# Altium integrated library Amplifiers - OP Amps and Buffer Amps.IntLib: 41 symbols (part 1 of 2)
Pins are listed as number, name and electrical type; pins without a type are passive.

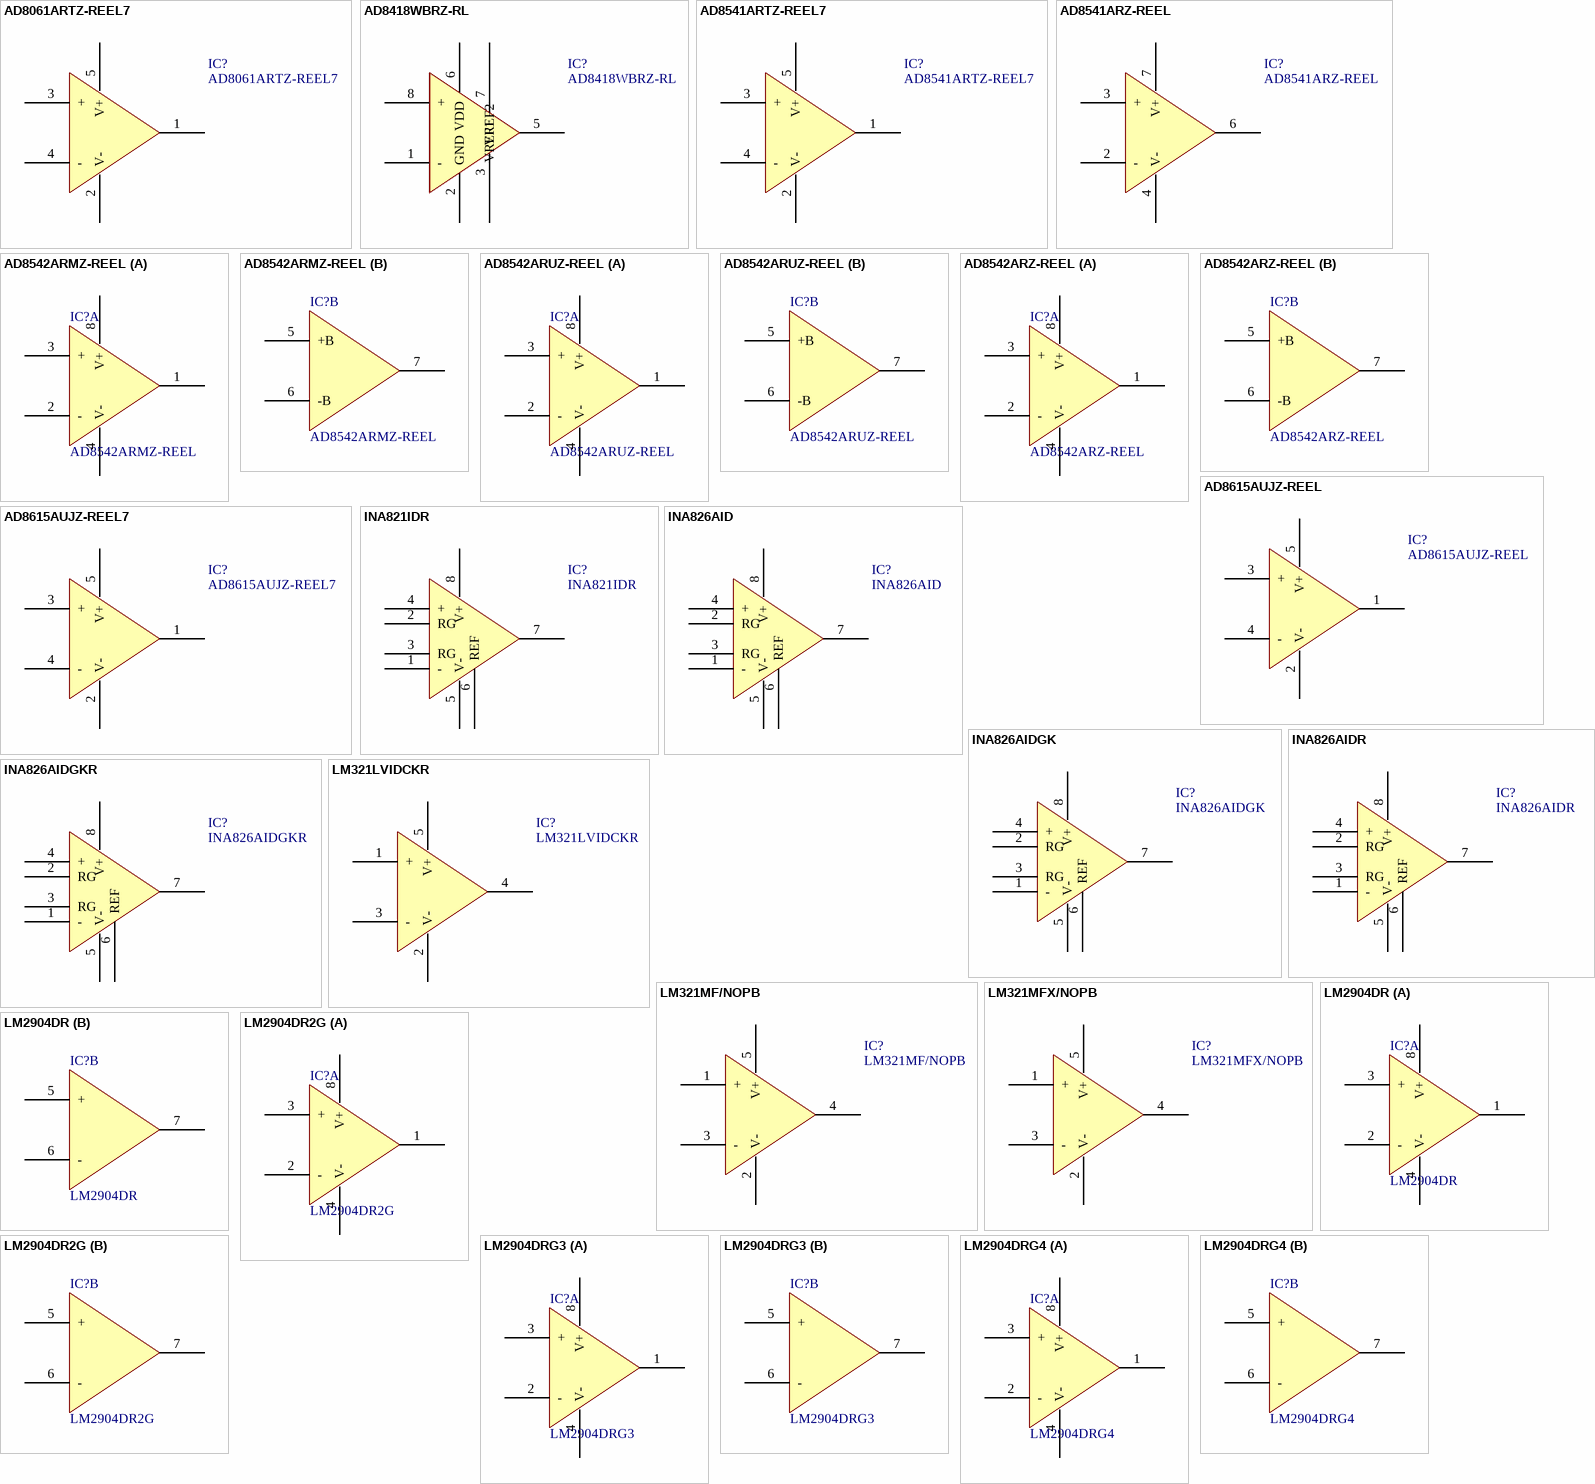
[diagram p0: symbols AD8061ARTZ-REEL7 to LM2904DRG4]

## AD8061ARTZ-REEL7
designator IC?
IC OPAMP VFB 1 CIRCUIT SOT23-5; Manufacturer: Analog Devices Inc.; -3db Bandwidth: 320MHz; Amplifier Type: Voltage Feedback; Current - Input Bias: 3.5µA; Current - Output / Channel: 50mA; Current - Supply: 6.8mA; Number of Circuits: 1; Output Type: Rail-to-Rail; Slew Rate: 650V/µs; Voltage - Input Offset: 1mV; Voltage - Supply, Single/Dual (±): 2.7V ~ 8V, ±1.35V ~ 4V; Part Number: AD8061ARTZ-REEL7; ComponentLink1Description: Datasheet; ComponentLink1URL: https://www.analog.com/media/en/technical-documentation/data-sheets/AD8061_8062_8063.pdf; ComponentLink2Description: DigiKey Link; ComponentLink2URL: //digikey.com/product-detail/en/analog-devices-inc/AD8061ARTZ-REEL7/AD8061ARTZ-REEL7TR-ND/620697; Device Package: SC-74A, SOT-753; LastUpdated: 12/4/2019 1:13:27 PM; Lifecycle Status: 0; Minimum Order: 1; Mounting Type: Surface Mount; Operating Temperature: -40°C ~ 85°C; Package / Case: SC-74A, SOT-753; Packaging: TapeAndReel; PartId: 1; Part Status: Active; Price: 1.05; Series: -; Supplier 1: DigiKey; Supplier Part Number 1: AD8061ARTZ-REEL7TR-ND; Supplier Device Package: SOT-23-5
footprint ANALOG SOT-23-5 RJ-5
pins: 1 OUT, 2 V-, 3 +, 4 -, 5 V+

## AD8418WBRZ-RL
designator IC?
IC CURR SENSE 1 CIRCUIT 8SOIC; Manufacturer: Analog Devices Inc.; -3db Bandwidth: 250kHz; Amplifier Type: Current Sense; Current - Supply: 2.6mA; Number of Circuits: 1; Slew Rate: 1V/µs; Voltage - Input Offset: 200µV; Voltage - Supply, Single/Dual (±): 2.7V ~ 5.5V; Part Number: AD8418WBRZ-RL; ComponentLink1Description: Datasheet; ComponentLink1URL: https://www.analog.com/media/en/technical-documentation/data-sheets/AD8418.pdf; ComponentLink2Description: DigiKey Link; ComponentLink2URL: //digikey.com/product-detail/en/analog-devices-inc/AD8418WBRZ-RL/AD8418WBRZ-RLTR-ND/4901149; Device Package: 8-SOIC (0.154", 3.90mm Width); LastUpdated: 12/4/2019 1:14:45 PM; Lifecycle Status: 0; Minimum Order: 1; Mounting Type: Surface Mount; Operating Temperature: -40°C ~ 125°C; Package / Case: 8-SOIC (0.154", 3.90mm Width); Packaging: TapeAndReel; PartId: 2; Part Status: Active; Price: 1.44; Series: Automotive; Supplier 1: DigiKey; Supplier Part Number 1: AD8418WBRZ-RLTR-ND; Supplier Device Package: 8-SOIC
footprint ANALOG DEV SOIC-8 R8
pins: 1 -, 2 GND, 3 VREF2, 5 OUT, 6 VDD, 7 VREF1, 8 +

## AD8541ARTZ-REEL7
designator IC?
IC OPAMP GP 1 CIRCUIT SOT23-5; Manufacturer: Analog Devices Inc.; Amplifier Type: General Purpose; Current - Input Bias: 4pA; Current - Output / Channel: 30mA; Current - Supply: 45µA; Gain Bandwidth Product: 1MHz; Number of Circuits: 1; Output Type: Rail-to-Rail; Slew Rate: 0.92V/µs; Voltage - Input Offset: 1mV; Voltage - Supply, Single/Dual (±): 2.7V ~ 5.5V; Part Number: AD8541ARTZ-REEL7; ComponentLink1Description: Datasheet; ComponentLink1URL: https://www.analog.com/media/en/technical-documentation/data-sheets/AD8541_8542_8544.pdf; ComponentLink2Description: DigiKey Link; ComponentLink2URL: http://digikey.com/product-detail/en/analog-devices-inc/AD8541ARTZ-REEL7/AD8541ARTZ-REEL7CT-ND/813416; Device Package: SC-74A, SOT-753; LastUpdated: 1/8/2020 11:39:15 PM; Lifecycle Status: Active; Minimum Order: 1; Mounting Type: Surface Mount; Operating Temperature: -40°C ~ 125°C; Package / Case: SC-74A, SOT-753; Packaging: ReReel; PartId: 9; Part Status: Active; Price: 0.00; Series: -; Supplier 1: DigiKey; Supplier Part Number 1: AD8541ARTZ-REEL7CT-ND; Supplier Device Package: SOT-23-5
footprint ANALOG SOT-23-5 RJ-5
pins: 1 OUT, 2 V-, 3 +, 4 -, 5 V+

## AD8541ARZ-REEL
designator IC?
IC OPAMP GP 1 CIRCUIT 8SOIC; Manufacturer: Analog Devices Inc.; Amplifier Type: General Purpose; Current - Input Bias: 4pA; Current - Output / Channel: 30mA; Current - Supply: 45µA; Gain Bandwidth Product: 1MHz; Number of Circuits: 1; Output Type: Rail-to-Rail; Slew Rate: 0.92V/µs; Voltage - Input Offset: 1mV; Voltage - Supply, Single/Dual (±): 2.7V ~ 5.5V; Part Number: AD8541ARZ-REEL; ComponentLink1Description: Datasheet; ComponentLink1URL: https://www.analog.com/media/en/technical-documentation/data-sheets/AD8541_8542_8544.pdf; ComponentLink2Description: DigiKey Link; ComponentLink2URL: http://digikey.com/product-detail/en/analog-devices-inc/AD8541ARZ-REEL/AD8541ARZ-REELCT-ND/4907211; Device Package: 8-SOIC (0.154", 3.90mm Width); LastUpdated: 1/9/2020 12:52:28 AM; Lifecycle Status: Active; Minimum Order: 1; Mounting Type: Surface Mount; Operating Temperature: -40°C ~ 125°C; Package / Case: 8-SOIC (0.154", 3.90mm Width); Packaging: ReReel; PartId: 10; Part Status: Active; Price: 0.00; Series: -; Supplier 1: DigiKey; Supplier Part Number 1: AD8541ARZ-REELCT-ND; Supplier Device Package: 8-SOIC
footprint ANALOG DEV SOIC-8 R8
pins: 2 -, 3 +, 4 V-, 6 OUT, 7 V+

## AD8542ARMZ-REEL
designator IC?
IC OPAMP GP 2 CIRCUIT 8MSOP; Manufacturer: Analog Devices Inc.; Amplifier Type: General Purpose; Current - Input Bias: 4pA; Current - Output / Channel: 30mA; Current - Supply: 45µA; Gain Bandwidth Product: 1MHz; Number of Circuits: 2; Output Type: Rail-to-Rail; Slew Rate: 0.92V/µs; Voltage - Input Offset: 1mV; Voltage - Supply, Single/Dual (±): 2.7V ~ 5.5V; Part Number: AD8542ARMZ-REEL; ComponentLink1Description: Datasheet; ComponentLink1URL: https://www.analog.com/media/en/technical-documentation/data-sheets/AD8541_8542_8544.pdf; ComponentLink2Description: DigiKey Link; ComponentLink2URL: http://digikey.com/product-detail/en/analog-devices-inc/AD8542ARMZ-REEL/AD8542ARMZ-REELCT-ND/1957825; Device Package: 8-TSSOP, 8-MSOP (0.118", 3.00mm Width); LastUpdated: 1/8/2020 11:28:44 PM; Lifecycle Status: Active; Minimum Order: 1; Mounting Type: Surface Mount; Operating Temperature: -40°C ~ 125°C; Package / Case: 8-TSSOP, 8-MSOP (0.118", 3.00mm Width); Packaging: ReReel; PartId: 7; Part Status: Active; Price: 0.00; Series: -; Supplier 1: DigiKey; Supplier Part Number 1: AD8542ARMZ-REELCT-ND; Supplier Device Package: 8-MSOP
footprint ANALOG MSOP-8 RM-8
part A pins: 1 OUT, 2 -, 3 +, 4 V-, 8 V+
part B pins: 5 +B, 6 -B, 7 OUT B

## AD8542ARUZ-REEL
designator IC?
IC OPAMP GP 2 CIRCUIT 8TSSOP; Manufacturer: Analog Devices Inc.; Amplifier Type: General Purpose; Current - Input Bias: 4pA; Current - Output / Channel: 30mA; Current - Supply: 45µA; Gain Bandwidth Product: 1MHz; Number of Circuits: 2; Output Type: Rail-to-Rail; Slew Rate: 0.92V/µs; Voltage - Input Offset: 1mV; Voltage - Supply, Single/Dual (±): 2.7V ~ 5.5V; Part Number: AD8542ARUZ-REEL; ComponentLink1Description: Datasheet; ComponentLink1URL: https://www.analog.com/media/en/technical-documentation/data-sheets/AD8541_8542_8544.pdf; ComponentLink2Description: DigiKey Link; ComponentLink2URL: http://digikey.com/product-detail/en/analog-devices-inc/AD8542ARUZ-REEL/AD8542ARUZ-REELCT-ND/3771170; Device Package: 8-TSSOP (0.173", 4.40mm Width); LastUpdated: 1/8/2020 11:37:06 PM; Lifecycle Status: Active; Minimum Order: 1; Mounting Type: Surface Mount; Operating Temperature: -40°C ~ 125°C; Package / Case: 8-TSSOP (0.173", 4.40mm Width); Packaging: ReReel; PartId: 8; Part Status: Active; Price: 0.00; Series: -; Supplier 1: DigiKey; Supplier Part Number 1: AD8542ARUZ-REELCT-ND; Supplier Device Package: 8-TSSOP
footprint ANALOG TSSOP-8 RU-8
part A pins: 1 OUT, 2 -, 3 +, 4 V-, 8 V+
part B pins: 5 +B, 6 -B, 7 OUT B

## AD8542ARZ-REEL
designator IC?
IC OPAMP GP 2 CIRCUIT 8SOIC; Manufacturer: Analog Devices Inc.; Amplifier Type: General Purpose; Current - Input Bias: 4pA; Current - Output / Channel: 30mA; Current - Supply: 45µA; Gain Bandwidth Product: 1MHz; Number of Circuits: 2; Output Type: Rail-to-Rail; Slew Rate: 0.92V/µs; Voltage - Input Offset: 1mV; Voltage - Supply, Single/Dual (±): 2.7V ~ 5.5V; Part Number: AD8542ARZ-REEL; ComponentLink1Description: Datasheet; ComponentLink1URL: https://www.analog.com/media/en/technical-documentation/data-sheets/AD8541_8542_8544.pdf; ComponentLink2Description: DigiKey Link; ComponentLink2URL: http://digikey.com/product-detail/en/analog-devices-inc/AD8542ARZ-REEL/AD8542ARZ-REELCT-ND/4906335; Device Package: 8-SOIC (0.154", 3.90mm Width); LastUpdated: 1/8/2020 11:28:26 PM; Lifecycle Status: Active; Minimum Order: 1; Mounting Type: Surface Mount; Operating Temperature: -40°C ~ 125°C; Package / Case: 8-SOIC (0.154", 3.90mm Width); Packaging: ReReel; PartId: 6; Part Status: Active; Price: 0.00; Series: -; Supplier 1: DigiKey; Supplier Part Number 1: AD8542ARZ-REELCT-ND; Supplier Device Package: 8-SOIC
footprint ANALOG DEV SOIC-8 R8
part A pins: 1 OUT, 2 -, 3 +, 4 V-, 8 V+
part B pins: 5 +B, 6 -B, 7 OUT B

## AD8615AUJZ-REEL
designator IC?
IC OPAMP GP 1 CIRCUIT TSOT23-5; Manufacturer: Analog Devices Inc.; Amplifier Type: General Purpose; Current - Input Bias: 0.2pA; Current - Output / Channel: 150mA; Current - Supply: 1.7mA; Gain Bandwidth Product: 24MHz; Number of Circuits: 1; Output Type: Rail-to-Rail; Slew Rate: 12V/µs; Voltage - Input Offset: 23µV; Voltage - Supply, Single/Dual (±): 2.7V ~ 5.5V, ±1.35V ~ 2.75V; Part Number: AD8615AUJZ-REEL; ComponentLink1Description: Datasheet; ComponentLink1URL: https://www.analog.com/media/en/technical-documentation/data-sheets/AD8615_8616_8618.pdf; ComponentLink2Description: DigiKey Link; ComponentLink2URL: //digikey.com/product-detail/en/analog-devices-inc/AD8615AUJZ-REEL/AD8615AUJZ-REELTR-ND/993826; Device Package: SOT-23-5 Thin, TSOT-23-5; LastUpdated: 12/9/2019 2:06:44 AM; Lifecycle Status: 0; Minimum Order: 1; Mounting Type: Surface Mount; Operating Temperature: -40°C ~ 125°C; Package / Case: SOT-23-5 Thin, TSOT-23-5; Packaging: TapeAndReel; PartId: 5; Part Status: Active; Price: 1.06; Series: DigiTrim®; Supplier 1: DigiKey; Supplier Part Number 1: AD8615AUJZ-REELTR-ND; Supplier Device Package: TSOT-23-5
footprint ANALOG TSOT-23-5 UJ-5
pins: 1 OUT, 2 V-, 3 +, 4 -, 5 V+

## AD8615AUJZ-REEL7
designator IC?
IC OPAMP GP 1 CIRCUIT TSOT23-5; Manufacturer: Analog Devices Inc.; Amplifier Type: General Purpose; Current - Input Bias: 0.2pA; Current - Output / Channel: 150mA; Current - Supply: 1.7mA; Gain Bandwidth Product: 24MHz; Number of Circuits: 1; Output Type: Rail-to-Rail; Slew Rate: 12V/µs; Voltage - Input Offset: 23µV; Voltage - Supply, Single/Dual (±): 2.7V ~ 5.5V, ±1.35V ~ 2.75V; Part Number: AD8615AUJZ-REEL7; ComponentLink1Description: Datasheet; ComponentLink1URL: https://www.analog.com/media/en/technical-documentation/data-sheets/AD8615_8616_8618.pdf; ComponentLink2Description: DigiKey Link; ComponentLink2URL: //digikey.com/product-detail/en/analog-devices-inc/AD8615AUJZ-REEL7/AD8615AUJZ-REEL7TR-ND/951437; Device Package: SOT-23-5 Thin, TSOT-23-5; LastUpdated: 12/4/2019 3:27:04 PM; Lifecycle Status: 0; Minimum Order: 1; Mounting Type: Surface Mount; Operating Temperature: -40°C ~ 125°C; Package / Case: SOT-23-5 Thin, TSOT-23-5; Packaging: TapeAndReel; PartId: 3; Part Status: Active; Price: 1.06; Series: DigiTrim®; Supplier 1: DigiKey; Supplier Part Number 1: AD8615AUJZ-REEL7TR-ND; Supplier Device Package: TSOT-23-5
footprint ANALOG TSOT-23-5 UJ-5
pins: 1 OUT, 2 V-, 3 +, 4 -, 5 V+

## INA821IDR
designator IC?
OP AMP; Manufacturer: Texas Instruments; -3db Bandwidth: 4.7MHz; Amplifier Type: Instrumentation; Current - Input Bias: 150pA; Current - Output / Channel: 20mA; Current - Supply: 600µA; Number of Circuits: 1; Slew Rate: 2V/µs; Voltage - Input Offset: 10µV; Voltage - Supply, Single/Dual (±): 4.5V ~ 36V, ±2.25V ~ 18V; Part Number: INA821IDR; ComponentLink1Description: Datasheet; ComponentLink1URL: http://www.ti.com/general/docs/suppproductinfo.tsp?distId=10&gotoUrl=http%3A%2F%2Fwww.ti.com%2Flit%2Fgpn%2Fina821; ComponentLink2Description: DigiKey Link; ComponentLink2URL: http://digikey.com/product-detail/en/texas-instruments/INA821IDR/296-INA821IDRCT-ND/10816915; Device Package: 8-SOIC (0.154", 3.90mm Width); LastUpdated: 2/5/2020 5:37:48 AM; Lifecycle Status: Active; Minimum Order: 1; Mounting Type: Surface Mount; Operating Temperature: -40°C ~ 125°C (TA); Package / Case: 8-SOIC (0.154", 3.90mm Width); Packaging: CutTape; PartId: 26; Part Status: Active; Price: 5.31; Series: -; Supplier 1: DigiKey; Supplier Part Number 1: 296-INA821IDRCT-ND; Supplier Device Package: 8-SOIC
footprint TI SOIC-8 D
pins: 1 -, 2 RG, 3 RG, 4 +, 5 V-, 6 REF, 7 OUT, 8 V+

## INA826AID
designator IC?
IC INST AMP 1 CIRCUIT 8SOIC; Manufacturer: Texas Instruments; -3db Bandwidth: 1MHz; Amplifier Type: Instrumentation; Current - Input Bias: 35nA; Current - Output / Channel: 16mA; Current - Supply: 200µA; Number of Circuits: 1; Output Type: Rail-to-Rail; Slew Rate: 1V/µs; Voltage - Input Offset: 40µV; Voltage - Supply, Single/Dual (±): 2.7V ~ 36V, ±1.35V ~ 18V; Part Number: INA826AID; ComponentLink1Description: Datasheet; ComponentLink1URL: http://www.ti.com/general/docs/suppproductinfo.tsp?distId=10&gotoUrl=http%3A%2F%2Fwww.ti.com%2Flit%2Fgpn%2Fina826; ComponentLink2Description: DigiKey Link; ComponentLink2URL: http://digikey.com/product-detail/en/texas-instruments/INA826AID/296-33294-5-ND/3053283; LastUpdated: 9/5/2020 1:50:12 AM; Lifecycle Status: Active; Minimum Order: 1; Mounting Type: Surface Mount; Operating Temperature: -40°C ~ 125°C; Package / Case: 8-SOIC (0.154", 3.90mm Width); Packaging: Tube; PartId: 40; Part Status: Active; Price: 2.94; Series: -; Supplier 1: DigiKey; Supplier Part Number 1: 296-33294-5-ND; Supplier Device Package: 8-SOIC
footprint TI SOIC-8 D
pins: 1 -, 2 RG, 3 RG, 4 +, 5 V-, 6 REF, 7 OUT, 8 V+

## INA826AIDGK
designator IC?
IC INST AMP 1 CIRCUIT 8VSSOP; Manufacturer: Texas Instruments; -3db Bandwidth: 1MHz; Amplifier Type: Instrumentation; Current - Input Bias: 35nA; Current - Output / Channel: 16mA; Current - Supply: 200µA; Number of Circuits: 1; Output Type: Rail-to-Rail; Slew Rate: 1V/µs; Voltage - Input Offset: 40µV; Voltage - Supply, Single/Dual (±): 2.7V ~ 36V, ±1.35V ~ 18V; Part Number: INA826AIDGK; ComponentLink1Description: Datasheet; ComponentLink1URL: http://www.ti.com/general/docs/suppproductinfo.tsp?distId=10&gotoUrl=http%3A%2F%2Fwww.ti.com%2Flit%2Fgpn%2Fina826; ComponentLink2Description: DigiKey Link; ComponentLink2URL: http://digikey.com/product-detail/en/texas-instruments/INA826AIDGK/296-29687-5-ND/2762243; LastUpdated: 9/5/2020 1:51:47 AM; Lifecycle Status: Active; Minimum Order: 1; Mounting Type: Surface Mount; Operating Temperature: -40°C ~ 125°C; Package / Case: 8-TSSOP, 8-MSOP (0.118", 3.00mm Width); Packaging: Tube; PartId: 41; Part Status: Active; Price: 2.94; Series: -; Supplier 1: DigiKey; Supplier Part Number 1: 296-29687-5-ND; Supplier Device Package: 8-VSSOP
footprint TI VSSOP-8 DGK
pins: 1 -, 2 RG, 3 RG, 4 +, 5 V-, 6 REF, 7 OUT, 8 V+

## INA826AIDGKR
designator IC?
IC INST AMP 1 CIRCUIT 8VSSOP; Manufacturer: Texas Instruments; -3db Bandwidth: 1MHz; Amplifier Type: Instrumentation; Current - Input Bias: 35nA; Current - Output / Channel: 16mA; Current - Supply: 200µA; Number of Circuits: 1; Output Type: Rail-to-Rail; Slew Rate: 1V/µs; Voltage - Input Offset: 40µV; Voltage - Supply, Single/Dual (±): 2.7V ~ 36V, ±1.35V ~ 18V; Part Number: INA826AIDGKR; ComponentLink1Description: Datasheet; ComponentLink1URL: http://www.ti.com/general/docs/suppproductinfo.tsp?distId=10&gotoUrl=http%3A%2F%2Fwww.ti.com%2Flit%2Fgpn%2Fina826; ComponentLink2Description: DigiKey Link; ComponentLink2URL: http://digikey.com/product-detail/en/texas-instruments/INA826AIDGKR/296-29663-1-ND/2762166; LastUpdated: 9/5/2020 1:49:27 AM; Lifecycle Status: Active; Minimum Order: 1; Mounting Type: Surface Mount; Operating Temperature: -40°C ~ 125°C; Package / Case: 8-TSSOP, 8-MSOP (0.118", 3.00mm Width); Packaging: TapeAndReel; PartId: 38; Part Status: Active; Price: 1.20; Series: -; Supplier 1: DigiKey; Supplier Part Number 1: 296-29663-1-ND; Supplier Device Package: 8-VSSOP
footprint TI VSSOP-8 DGK
pins: 1 -, 2 RG, 3 RG, 4 +, 5 V-, 6 REF, 7 OUT, 8 V+

## INA826AIDR
designator IC?
IC INST AMP 1 CIRCUIT 8SOIC; Manufacturer: Texas Instruments; -3db Bandwidth: 1MHz; Amplifier Type: Instrumentation; Current - Input Bias: 35nA; Current - Output / Channel: 16mA; Current - Supply: 200µA; Number of Circuits: 1; Output Type: Rail-to-Rail; Slew Rate: 1V/µs; Voltage - Input Offset: 40µV; Voltage - Supply, Single/Dual (±): 2.7V ~ 36V, ±1.35V ~ 18V; Part Number: INA826AIDR; ComponentLink1Description: Datasheet; ComponentLink1URL: http://www.ti.com/general/docs/suppproductinfo.tsp?distId=10&gotoUrl=http%3A%2F%2Fwww.ti.com%2Flit%2Fgpn%2Fina826; ComponentLink2Description: DigiKey Link; ComponentLink2URL: http://digikey.com/product-detail/en/texas-instruments/INA826AIDR/296-30238-1-ND/3045446; LastUpdated: 9/5/2020 1:49:51 AM; Lifecycle Status: Active; Minimum Order: 1; Mounting Type: Surface Mount; Operating Temperature: -40°C ~ 125°C; Package / Case: 8-SOIC (0.154", 3.90mm Width); Packaging: TapeAndReel; PartId: 39; Part Status: Active; Price: 1.20; Series: -; Supplier 1: DigiKey; Supplier Part Number 1: 296-30238-1-ND; Supplier Device Package: 8-SOIC
footprint TI SOIC-8 D
pins: 1 -, 2 RG, 3 RG, 4 +, 5 V-, 6 REF, 7 OUT, 8 V+

## LM321LVIDCKR
designator IC?
IC OPAMP GP 1 CIRCUIT SC70-5; Manufacturer: Texas Instruments; Amplifier Type: General Purpose; Current - Input Bias: 15pA; Current - Output / Channel: 40mA; Current - Supply: 90µA; Gain Bandwidth Product: 1MHz; Number of Circuits: 1; Slew Rate: 1.5V/µs; Voltage - Supply, Single/Dual (±): 2.7V, ±1.35V ~ 5.5V, ±2.75V; Part Number: LM321LVIDCKR; ComponentLink1Description: Datasheet; ComponentLink1URL: http://www.ti.com/general/docs/suppproductinfo.tsp?distId=10&gotoUrl=http%3A%2F%2Fwww.ti.com%2Flit%2Fgpn%2Flm321lv; ComponentLink2Description: DigiKey Link; ComponentLink2URL: http://digikey.com/product-detail/en/texas-instruments/LM321LVIDCKR/296-53426-1-ND/9954144; Device Package: 5-TSSOP, SC-70-5, SOT-353; LastUpdated: 1/9/2020 2:04:38 AM; Lifecycle Status: Active; Minimum Order: 1; Mounting Type: Surface Mount; Operating Temperature: -40°C ~ 125°C (TA); Package / Case: 5-TSSOP, SC-70-5, SOT-353; Packaging: ReReel; PartId: 13; Part Status: Active; Price: 0.00; Series: -; Supplier 1: DigiKey; Supplier Part Number 1: 296-53426-1-ND; Supplier Device Package: SC-70-5
footprint TI SC70-6 DCK
pins: 1 +, 2 V-, 3 -, 4 OUT, 5 V+

## LM321MF/NOPB
designator IC?
IC OPAMP GP 1 CIRCUIT SOT23-5; Manufacturer: Texas Instruments; Amplifier Type: General Purpose; Current - Input Bias: 45nA; Current - Output / Channel: 40mA; Current - Supply: 660µA; Gain Bandwidth Product: 1MHz; Number of Circuits: 1; Slew Rate: 0.4V/µs; Voltage - Input Offset: 2mV; Voltage - Supply, Single/Dual (±): 3V ~ 30V, ±1.5V ~ 15V; Part Number: LM321MF/NOPB; ComponentLink1Description: Datasheet; ComponentLink1URL: http://www.ti.com/general/docs/suppproductinfo.tsp?distId=10&gotoUrl=http%3A%2F%2Fwww.ti.com%2Flit%2Fgpn%2Flm321; ComponentLink2Description: DigiKey Link; ComponentLink2URL: http://digikey.com/product-detail/en/texas-instruments/LM321MF-NOPB/LM321MF-NOPBCT-ND/638699; Device Package: SC-74A, SOT-753; LastUpdated: 1/9/2020 2:04:15 AM; Lifecycle Status: Active; Minimum Order: 1; Mounting Type: Surface Mount; Operating Temperature: -40°C ~ 85°C; Package / Case: SC-74A, SOT-753; Packaging: ReReel; PartId: 12; Part Status: Active; Price: 0.00; Series: -; Supplier 1: DigiKey; Supplier Part Number 1: LM321MF/NOPBCT-ND; Supplier Device Package: SOT-23-5
footprint TI SOT-23-5 DBV
pins: 1 +, 2 V-, 3 -, 4 OUT, 5 V+

## LM321MFX/NOPB
designator IC?
IC OPAMP GP 1 CIRCUIT SOT23-5; Manufacturer: Texas Instruments; Amplifier Type: General Purpose; Current - Input Bias: 45nA; Current - Output / Channel: 40mA; Current - Supply: 660µA; Gain Bandwidth Product: 1MHz; Number of Circuits: 1; Slew Rate: 0.4V/µs; Voltage - Input Offset: 2mV; Voltage - Supply, Single/Dual (±): 3V ~ 30V, ±1.5V ~ 15V; Part Number: LM321MFX/NOPB; ComponentLink1Description: Datasheet; ComponentLink1URL: http://www.ti.com/general/docs/suppproductinfo.tsp?distId=10&gotoUrl=http%3A%2F%2Fwww.ti.com%2Flit%2Fgpn%2Flm321; ComponentLink2Description: DigiKey Link; ComponentLink2URL: http://digikey.com/product-detail/en/texas-instruments/LM321MFX-NOPB/LM321MFX-NOPBCT-ND/3440175; Device Package: SC-74A, SOT-753; LastUpdated: 3/30/2020 3:10:59 PM; Lifecycle Status: Active; Minimum Order: 1; Mounting Type: Surface Mount; Operating Temperature: -40°C ~ 85°C; Package / Case: SC-74A, SOT-753; Packaging: TapeAndReel; PartId: 11; Part Status: Active; Price: 0.23; Series: -; Supplier 1: DigiKey; Supplier Part Number 1: LM321MFX/NOPBCT-ND; Supplier Device Package: SOT-23-5
footprint TI SOT-23-5 DBV
pins: 1 +, 2 V-, 3 -, 4 OUT, 5 V+

## LM2904DR
designator IC?
IC OPAMP GP 2 CIRCUIT 8SOIC; Manufacturer: Texas Instruments; Amplifier Type: General Purpose; Current - Input Bias: 20nA; Current - Output / Channel: 30mA; Current - Supply: 1mA; Gain Bandwidth Product: 700kHz; Number of Circuits: 2; Slew Rate: 0.3V/µs; Voltage - Input Offset: 3mV; Voltage - Supply, Single/Dual (±): 3V ~ 26V, ±1.5V ~ 13V; Part Number: LM2904DR; ComponentLink1Description: Datasheet; ComponentLink1URL: http://www.ti.com/general/docs/suppproductinfo.tsp?distId=10&gotoUrl=http%3A%2F%2Fwww.ti.com%2Flit%2Fgpn%2Flm258a; ComponentLink2Description: DigiKey Link; ComponentLink2URL: http://digikey.com/product-detail/en/texas-instruments/LM2904DR/296-14596-1-ND/555533; Device Package: 8-SOIC (0.154", 3.90mm Width); LastUpdated: 1/9/2020 2:06:28 AM; Lifecycle Status: Active; Minimum Order: 1; Mounting Type: Surface Mount; Operating Temperature: -40°C ~ 125°C; Package / Case: 8-SOIC (0.154", 3.90mm Width); Packaging: ReReel; PartId: 4; Part Status: Active; Price: 0.00; Series: -; Supplier 1: DigiKey; Supplier Part Number 1: 296-14596-1-ND; Supplier Device Package: 8-SOIC
footprint TI SOIC-8 D
part A pins: 1 OUTA, 2 -, 3 +, 4 V-, 8 V+
part B pins: 5 +, 6 -, 7 OUTB

## LM2904DR2G
designator IC?
IC OPAMP GP 2 CIRCUIT 8SOIC; Manufacturer: ON Semiconductor; Amplifier Type: General Purpose; Current - Input Bias: 45nA; Current - Output / Channel: 40mA; Current - Supply: 1.5mA; Gain Bandwidth Product: 1MHz; Number of Circuits: 2; Slew Rate: 0.6V/µs; Voltage - Input Offset: 2mV; Voltage - Supply, Single/Dual (±): 3V ~ 32V, ±1.5V ~ 16V; Part Number: LM2904DR2G; ComponentLink1Description: Datasheet; ComponentLink1URL: http://www.onsemi.com/pub/Collateral/LM358-D.PDF; ComponentLink2Description: DigiKey Link; ComponentLink2URL: http://digikey.com/product-detail/en/on-semiconductor/LM2904DR2G/LM2904DR2GOSCT-ND/917932; Device Package: 8-SOIC (0.154", 3.90mm Width); LastUpdated: 1/9/2020 2:06:42 AM; Lifecycle Status: Active; Minimum Order: 1; Mounting Type: Surface Mount; Operating Temperature: -40°C ~ 105°C; Package / Case: 8-SOIC (0.154", 3.90mm Width); Packaging: ReReel; PartId: 15; Part Status: Active; Price: 0.00; Series: -; Supplier 1: DigiKey; Supplier Part Number 1: LM2904DR2GOSCT-ND; Supplier Device Package: 8-SOIC
footprint TI SOIC-8 D
part A pins: 1 OUTA, 2 -, 3 +, 4 V-, 8 V+
part B pins: 5 +, 6 -, 7 OUTB

## LM2904DRG3
designator IC?
IC OPAMP GP 2 CIRCUIT 8SOIC; Manufacturer: Texas Instruments; Amplifier Type: General Purpose; Current - Input Bias: 20nA; Current - Output / Channel: 30mA; Current - Supply: 1mA; Gain Bandwidth Product: 700kHz; Number of Circuits: 2; Slew Rate: 0.3V/µs; Voltage - Input Offset: 3mV; Voltage - Supply, Single/Dual (±): 3V ~ 26V, ±1.5V ~ 13V; Part Number: LM2904DRG3; ComponentLink1Description: Datasheet; ComponentLink1URL: http://www.ti.com/general/docs/suppproductinfo.tsp?distId=10&gotoUrl=http%3A%2F%2Fwww.ti.com%2Flit%2Fgpn%2Flm258a; ComponentLink2Description: DigiKey Link; ComponentLink2URL: http://digikey.com/product-detail/en/texas-instruments/LM2904DRG3/296-27464-1-ND/2297366; Device Package: 8-SOIC (0.154", 3.90mm Width); LastUpdated: 1/9/2020 2:06:06 AM; Lifecycle Status: Active; Minimum Order: 1; Mounting Type: Surface Mount; Operating Temperature: -40°C ~ 125°C; Package / Case: 8-SOIC (0.154", 3.90mm Width); Packaging: ReReel; PartId: 14; Part Status: Active; Price: 0.00; Series: -; Supplier 1: DigiKey; Supplier Part Number 1: 296-27464-1-ND; Supplier Device Package: 8-SOIC
footprint TI SOIC-8 D
part A pins: 1 OUTA, 2 -, 3 +, 4 V-, 8 V+
part B pins: 5 +, 6 -, 7 OUTB

## LM2904DRG4
designator IC?
IC OPAMP GP 2 CIRCUIT 8SOIC; Manufacturer: Texas Instruments; Amplifier Type: General Purpose; Current - Input Bias: 20nA; Current - Supply: 1mA; Gain Bandwidth Product: 700kHz; Number of Circuits: 2; Slew Rate: 0.3V/µs; Voltage - Input Offset: 3mV; Voltage - Supply, Single/Dual (±): 3V ~ 26V, ±1.5V ~ 13V; Part Number: LM2904DRG4; ComponentLink1Description: Datasheet; ComponentLink1URL: http://www.ti.com/general/docs/suppproductinfo.tsp?distId=10&gotoUrl=http%3A%2F%2Fwww.ti.com%2Flit%2Fgpn%2Flm258a; ComponentLink2Description: DigiKey Link; ComponentLink2URL: http://digikey.com/product-detail/en/texas-instruments/LM2904DRG4/296-39004-1-ND/5143065; Device Package: 8-SOIC (0.154", 3.90mm Width); LastUpdated: 1/9/2020 2:06:56 AM; Lifecycle Status: Active; Minimum Order: 1; Mounting Type: Surface Mount; Operating Temperature: -40°C ~ 125°C; Package / Case: 8-SOIC (0.154", 3.90mm Width); Packaging: ReReel; PartId: 16; Part Status: Active; Price: 0.00; Series: -; Supplier 1: DigiKey; Supplier Part Number 1: 296-39004-1-ND; Supplier Device Package: 8-SOIC
footprint TI SOIC-8 D
part A pins: 1 OUTA, 2 -, 3 +, 4 V-, 8 V+
part B pins: 5 +, 6 -, 7 OUTB

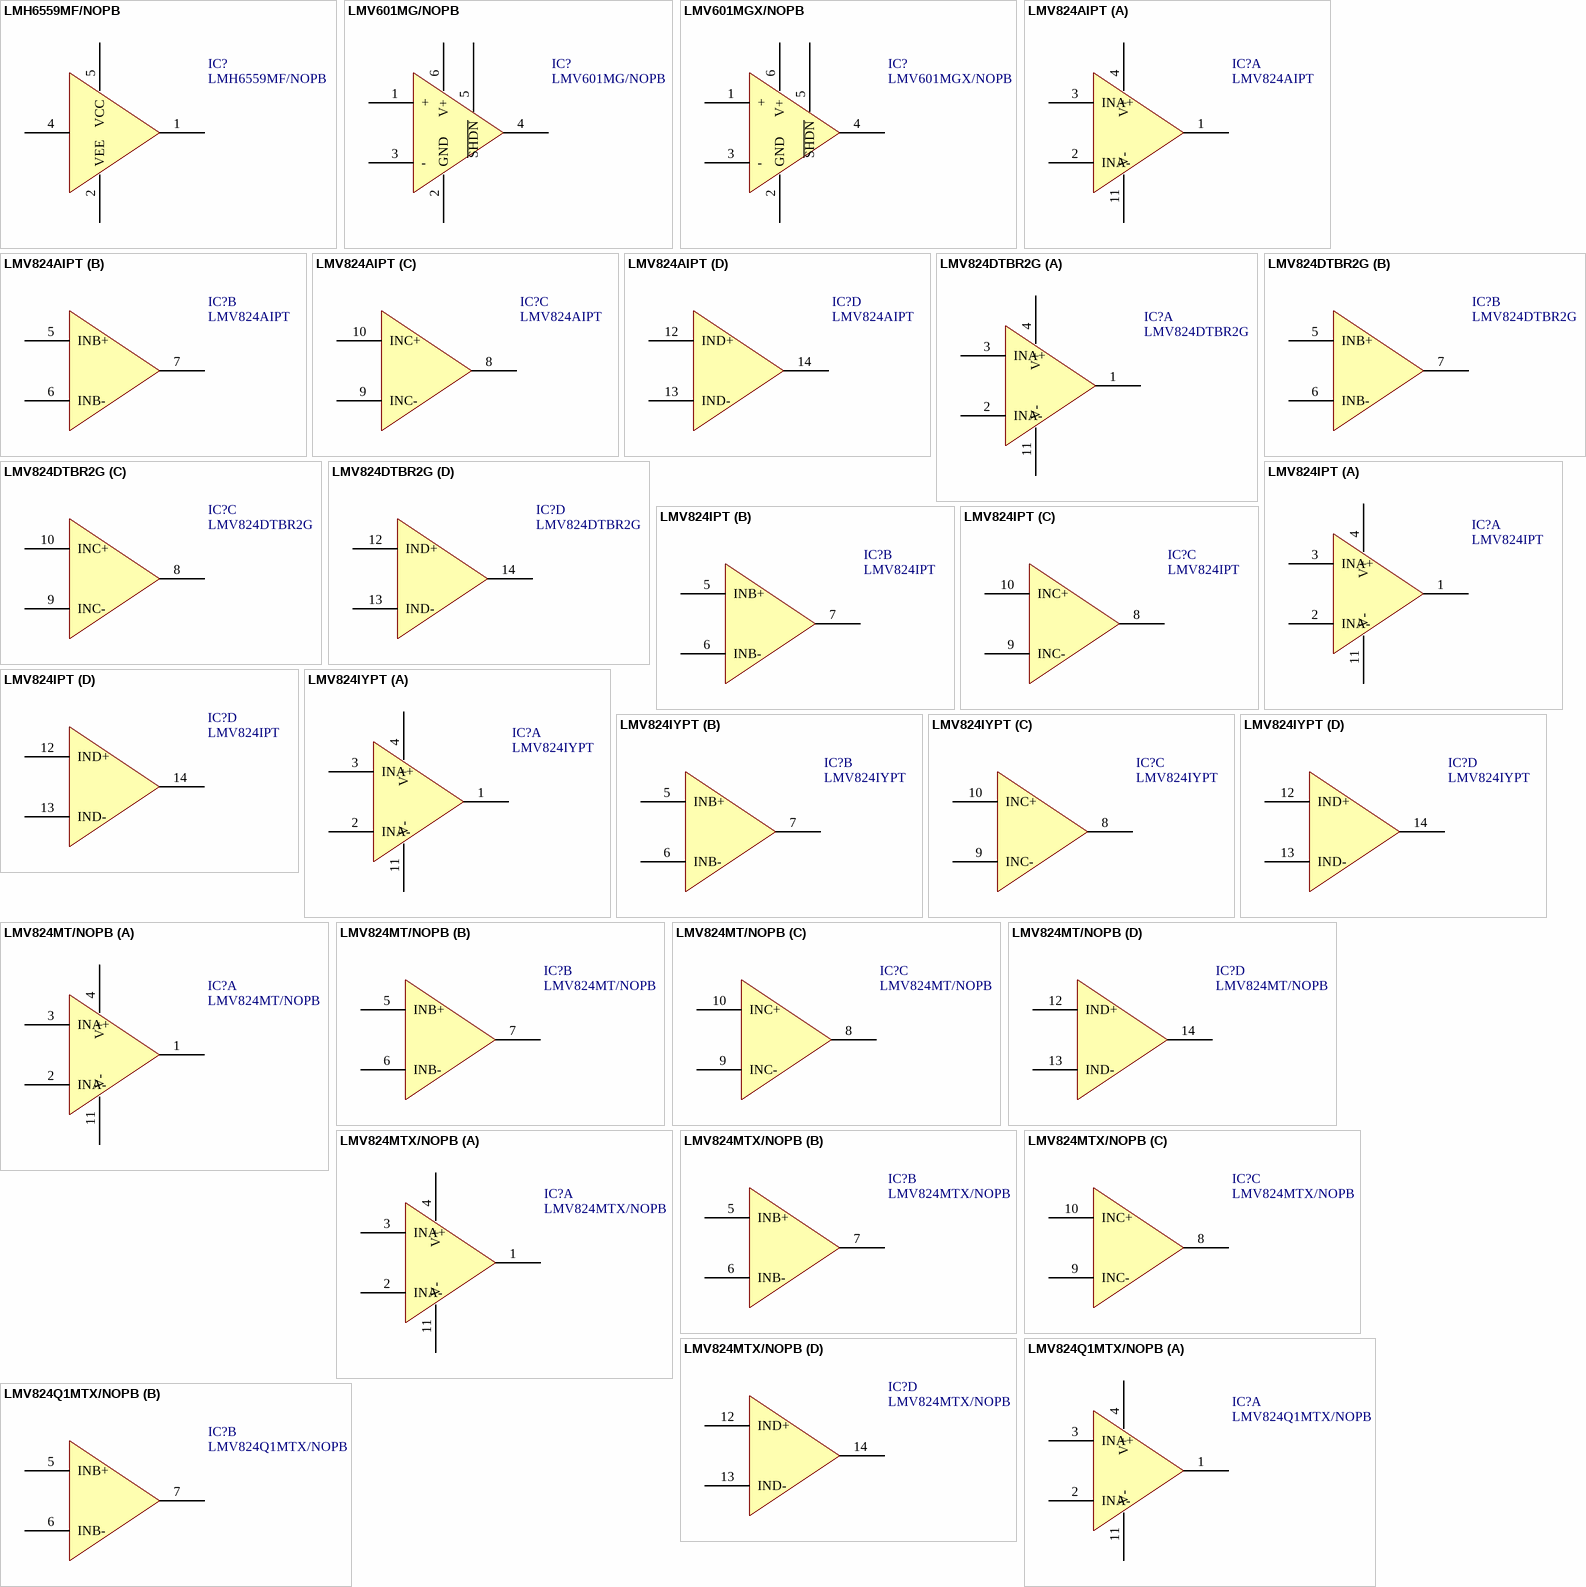
[diagram p1: symbols LMH6559MF/NOPB to LMV824Q1MTX/NOPB]

## LMH6559MF/NOPB
designator IC?
IC BUFFER 1 CIRCUIT SOT23-5; Manufacturer: Texas Instruments; -3db Bandwidth: 1.75GHz; Current - Input Bias: 3µA; Current - Output / Channel: 74mA; Current - Supply: 10mA; Number of Circuits: 1; Slew Rate: 4580V/µs; Voltage - Input Offset: 3mV; Voltage - Supply, Single/Dual (±): 3V ~ 10V, ±1.5V ~ 5V; Part Number: LMH6559MF/NOPB; Amplifier Type: Buffer; ComponentLink1Description: Datasheet; ComponentLink1URL: http://www.ti.com/general/docs/suppproductinfo.tsp?distId=10&gotoUrl=http%3A%2F%2Fwww.ti.com%2Flit%2Fgpn%2Flmh6559; ComponentLink2Description: DigiKey Link; ComponentLink2URL: http://digikey.com/product-detail/en/texas-instruments/LMH6559MF-NOPB/LMH6559MF-NOPBCT-ND/566704; Device Package: SC-74A, SOT-753; LastUpdated: 6/6/2020 2:09:06 AM; Lifecycle Status: Active; Minimum Order: 1; Mounting Type: Surface Mount; Operating Temperature: -40°C ~ 85°C; Package / Case: SC-74A, SOT-753; Packaging: TapeAndReel; PartId: 31; Part Status: Active; Price: 1.37; Series: -; Supplier 1: DigiKey; Supplier Part Number 1: LMH6559MF/NOPBCT-ND; Supplier Device Package: SOT-23-5
footprint TI SOT-23-5 DBV
pins: 1 OUT, 2 VEE (power), 4 IN, 5 VCC (power)

## LMV601MG/NOPB
designator IC?
IC OPAMP GP 1 CIRCUIT SC70-6; Manufacturer: Texas Instruments; Amplifier Type: General Purpose; Current - Input Bias: 0.02pA; Current - Output / Channel: 113mA; Current - Supply: 107µA; Gain Bandwidth Product: 1MHz; Number of Circuits: 1; Output Type: Rail-to-Rail; Slew Rate: 1V/µs; Voltage - Input Offset: 250µV; Voltage - Supply, Single/Dual (±): 2.7V ~ 5.5V; Part Number: LMV601MG/NOPB; ComponentLink1Description: Datasheet; ComponentLink1URL: http://www.ti.com/general/docs/suppproductinfo.tsp?distId=10&gotoUrl=http%3A%2F%2Fwww.ti.com%2Flit%2Fgpn%2Flmv601; ComponentLink2Description: DigiKey Link; ComponentLink2URL: http://digikey.com/product-detail/en/texas-instruments/LMV601MG-NOPB/296-39050-1-ND/5143087; Device Package: 6-TSSOP, SC-88, SOT-363; LastUpdated: 3/30/2020 3:11:24 PM; Lifecycle Status: Active; Minimum Order: 1; Mounting Type: Surface Mount; Operating Temperature: -40°C ~ 125°C; Package / Case: 6-TSSOP, SC-88, SOT-363; Packaging: TapeAndReel; PartId: 24; Part Status: Active; Price: 0.25; Series: -; Supplier 1: DigiKey; Supplier Part Number 1: 296-39050-1-ND; Supplier Device Package: SC-70-6
footprint TI SC70-6 DCK
pins: 1 +, 2 GND (power), 3 -, 4 OUT, 5 ~{SHDN}, 6 V+ (power)

## LMV601MGX/NOPB
designator IC?
IC OPAMP GP 1 CIRCUIT SC70-6; Manufacturer: Texas Instruments; Amplifier Type: General Purpose; Current - Input Bias: 0.02pA; Current - Output / Channel: 113mA; Current - Supply: 107µA; Gain Bandwidth Product: 1MHz; Number of Circuits: 1; Output Type: Rail-to-Rail; Slew Rate: 1V/µs; Voltage - Input Offset: 250µV; Voltage - Supply, Single/Dual (±): 2.7V ~ 5.5V; Part Number: LMV601MGX/NOPB; ComponentLink1Description: Datasheet; ComponentLink1URL: http://www.ti.com/general/docs/suppproductinfo.tsp?distId=10&gotoUrl=http%3A%2F%2Fwww.ti.com%2Flit%2Fgpn%2Flmv601; ComponentLink2Description: DigiKey Link; ComponentLink2URL: http://digikey.com/product-detail/en/texas-instruments/LMV601MGX-NOPB/296-46438-1-ND/7033611; Device Package: 6-TSSOP, SC-88, SOT-363; LastUpdated: 1/9/2020 2:17:00 AM; Lifecycle Status: Active; Minimum Order: 1; Mounting Type: Surface Mount; Operating Temperature: -40°C ~ 125°C; Package / Case: 6-TSSOP, SC-88, SOT-363; Packaging: ReReel; PartId: 25; Part Status: Active; Price: 0.00; Series: -; Supplier 1: DigiKey; Supplier Part Number 1: 296-46438-1-ND; Supplier Device Package: SC-70-6
footprint TI SC70-6 DCK
pins: 1 +, 2 GND (power), 3 -, 4 OUT, 5 ~{SHDN}, 6 V+ (power)

## LMV824AIPT
designator IC?
IC OPAMP GP 4 CIRCUIT 14TSSOP; Manufacturer: STMicroelectronics; Amplifier Type: General Purpose; Current - Input Bias: 60nA; Current - Output / Channel: 70mA; Current - Supply: 300µA; Gain Bandwidth Product: 5.5MHz; Number of Circuits: 4; Output Type: Rail-to-Rail; Slew Rate: 1.9V/µs; Voltage - Input Offset: 800µV; Voltage - Supply, Single/Dual (±): 2.5V ~ 5.5V; Part Number: LMV824AIPT; ComponentLink1Description: Datasheet; ComponentLink1URL: http://www.st.com/content/ccc/resource/technical/document/datasheet/39/12/97/14/01/a7/4f/de/DM00041851.pdf/files/DM00041851.pdf/jcr:content/translations/en.DM00041851.pdf; ComponentLink2Description: DigiKey Link; ComponentLink2URL: http://digikey.com/product-detail/en/stmicroelectronics/LMV824AIPT/497-12825-1-ND/3028576; Device Package: 14-TSSOP (0.173", 4.40mm Width); LastUpdated: 1/9/2020 2:13:49 AM; Lifecycle Status: Active; Minimum Order: 1; Mounting Type: Surface Mount; Operating Temperature: -40°C ~ 125°C; Package / Case: 14-TSSOP (0.173", 4.40mm Width); Packaging: ReReel; PartId: 21; Part Status: Active; Price: 0.00; Series: -; Supplier 1: DigiKey; Supplier Part Number 1: 497-12825-1-ND; Supplier Device Package: 14-TSSOP
footprint TI TSSOP-14 PW
part A pins: 1 OUT, 2 INA-, 3 INA+, 4 V+ (power), 11 V- (power)
part B pins: 5 INB+, 6 INB-, 7 OUTB
part C pins: 8 OUTC, 9 INC-, 10 INC+
part D pins: 12 IND+, 13 IND-, 14 OUTD

## LMV824DTBR2G
designator IC?
IC OPAMP GP 4 CIRCUIT 14TSSOP; Manufacturer: ON Semiconductor; Amplifier Type: General Purpose; Current - Input Bias: 119nA; Current - Output / Channel: 45mA; Current - Supply: 1mA; Gain Bandwidth Product: 5.6MHz; Number of Circuits: 4; Output Type: Rail-to-Rail; Slew Rate: 2V/µs; Voltage - Input Offset: 1mV; Voltage - Supply, Single/Dual (±): 2.7V ~ 5.5V, ±1.35V ~ 2.75V; Part Number: LMV824DTBR2G; ComponentLink1Description: Datasheet; ComponentLink1URL: http://www.onsemi.com/pub/Collateral/LMV821-D.PDF; ComponentLink2Description: DigiKey Link; ComponentLink2URL: http://digikey.com/product-detail/en/on-semiconductor/LMV824DTBR2G/LMV824DTBR2GOSCT-ND/9086557; Device Package: 14-TSSOP (0.173", 4.40mm Width); LastUpdated: 1/9/2020 2:14:13 AM; Lifecycle Status: Active; Minimum Order: 1; Mounting Type: Surface Mount; Operating Temperature: -40°C ~ 85°C; Package / Case: 14-TSSOP (0.173", 4.40mm Width); Packaging: ReReel; PartId: 22; Part Status: Active; Price: 0.00; Series: -; Supplier 1: DigiKey; Supplier Part Number 1: LMV824DTBR2GOSCT-ND; Supplier Device Package: 14-TSSOP
footprint TI TSSOP-14 PW
part A pins: 1 OUT, 2 INA-, 3 INA+, 4 V+ (power), 11 V- (power)
part B pins: 5 INB+, 6 INB-, 7 OUTB
part C pins: 8 OUTC, 9 INC-, 10 INC+
part D pins: 12 IND+, 13 IND-, 14 OUTD

## LMV824IPT
designator IC?
IC OPAMP GP 4 CIRCUIT 14TSSOP; Manufacturer: STMicroelectronics; Amplifier Type: General Purpose; Current - Input Bias: 60nA; Current - Output / Channel: 70mA; Current - Supply: 300µA; Gain Bandwidth Product: 5.5MHz; Number of Circuits: 4; Output Type: Rail-to-Rail; Slew Rate: 1.9V/µs; Voltage - Input Offset: 800µV; Voltage - Supply, Single/Dual (±): 2.5V ~ 5.5V; Part Number: LMV824IPT; ComponentLink1Description: Datasheet; ComponentLink1URL: http://www.st.com/content/ccc/resource/technical/document/datasheet/39/12/97/14/01/a7/4f/de/DM00041851.pdf/files/DM00041851.pdf/jcr:content/translations/en.DM00041851.pdf; ComponentLink2Description: DigiKey Link; ComponentLink2URL: http://digikey.com/product-detail/en/stmicroelectronics/LMV824IPT/497-13209-1-ND/3594787; Device Package: 14-TSSOP (0.173", 4.40mm Width); LastUpdated: 1/9/2020 2:14:30 AM; Lifecycle Status: Active; Minimum Order: 1; Mounting Type: Surface Mount; Operating Temperature: -40°C ~ 125°C; Package / Case: 14-TSSOP (0.173", 4.40mm Width); Packaging: ReReel; PartId: 23; Part Status: Active; Price: 0.00; Series: -; Supplier 1: DigiKey; Supplier Part Number 1: 497-13209-1-ND; Supplier Device Package: 14-TSSOP
footprint TI TSSOP-14 PW
part A pins: 1 OUT, 2 INA-, 3 INA+, 4 V+ (power), 11 V- (power)
part B pins: 5 INB+, 6 INB-, 7 OUTB
part C pins: 8 OUTC, 9 INC-, 10 INC+
part D pins: 12 IND+, 13 IND-, 14 OUTD

## LMV824IYPT
designator IC?
IC OPAMP GP 4 CIRCUIT 14TSSOP; Manufacturer: STMicroelectronics; Amplifier Type: General Purpose; Current - Input Bias: 60nA; Current - Output / Channel: 70mA; Current - Supply: 300µA; Gain Bandwidth Product: 5.5MHz; Number of Circuits: 4; Output Type: Rail-to-Rail; Slew Rate: 1.9V/µs; Voltage - Input Offset: 800µV; Voltage - Supply, Single/Dual (±): 2.5V ~ 5.5V; Part Number: LMV824IYPT; ComponentLink1Description: Datasheet; ComponentLink1URL: http://www.st.com/content/ccc/resource/technical/document/datasheet/39/12/97/14/01/a7/4f/de/DM00041851.pdf/files/DM00041851.pdf/jcr:content/translations/en.DM00041851.pdf; ComponentLink2Description: DigiKey Link; ComponentLink2URL: http://digikey.com/product-detail/en/stmicroelectronics/LMV824IYPT/497-13675-1-ND/4037656; Device Package: 14-TSSOP (0.173", 4.40mm Width); LastUpdated: 1/9/2020 2:12:17 AM; Lifecycle Status: Active; Minimum Order: 1; Mounting Type: Surface Mount; Operating Temperature: -40°C ~ 125°C; Package / Case: 14-TSSOP (0.173", 4.40mm Width); Packaging: CutTape; PartId: 18; Part Status: Active; Price: 0.00; Series: Automotive, AEC-Q100; Supplier 1: DigiKey; Supplier Part Number 1: 497-13675-1-ND; Supplier Device Package: 14-TSSOP
footprint TI TSSOP-14 PW
part A pins: 1 OUT, 2 INA-, 3 INA+, 4 V+ (power), 11 V- (power)
part B pins: 5 INB+, 6 INB-, 7 OUTB
part C pins: 8 OUTC, 9 INC-, 10 INC+
part D pins: 12 IND+, 13 IND-, 14 OUTD

## LMV824MT/NOPB
designator IC?
IC OPAMP GP 4 CIRCUIT 14TSSOP; Manufacturer: Texas Instruments; Amplifier Type: General Purpose; Current - Input Bias: 100nA; Current - Supply: 1mA; Gain Bandwidth Product: 5.6MHz; Number of Circuits: 4; Output Type: Rail-to-Rail; Slew Rate: 2V/µs; Voltage - Input Offset: 3.5mV; Voltage - Supply, Single/Dual (±): 2.5V ~ 5.5V, ±1.25V ~ 2.75V; Part Number: LMV824MT/NOPB; ComponentLink1Description: Datasheet; ComponentLink1URL: http://www.ti.com/general/docs/suppproductinfo.tsp?distId=10&gotoUrl=http%3A%2F%2Fwww.ti.com%2Flit%2Fgpn%2Flmv821-n; ComponentLink2Description: DigiKey Link; ComponentLink2URL: http://digikey.com/product-detail/en/texas-instruments/LMV824MT-NOPB/LMV824MT-NOPB-ND/364412; Device Package: 14-TSSOP (0.173", 4.40mm Width); LastUpdated: 1/9/2020 2:10:24 AM; Lifecycle Status: Active; Minimum Order: 1; Mounting Type: Surface Mount; Operating Temperature: -40°C ~ 85°C; Package / Case: 14-TSSOP (0.173", 4.40mm Width); Packaging: Tube; PartId: 17; Part Status: Active; Price: 1.77; Series: -; Supplier 1: DigiKey; Supplier Part Number 1: LMV824MT/NOPB-ND; Supplier Device Package: 14-TSSOP
footprint TI TSSOP-14 PW
part A pins: 1 OUT, 2 INA-, 3 INA+, 4 V+ (power), 11 V- (power)
part B pins: 5 INB+, 6 INB-, 7 OUTB
part C pins: 8 OUTC, 9 INC-, 10 INC+
part D pins: 12 IND+, 13 IND-, 14 OUTD

## LMV824MTX/NOPB
designator IC?
IC OPAMP GP 4 CIRCUIT 14TSSOP; Manufacturer: Texas Instruments; Amplifier Type: General Purpose; Current - Input Bias: 100nA; Current - Supply: 1mA; Gain Bandwidth Product: 5.6MHz; Number of Circuits: 4; Output Type: Rail-to-Rail; Slew Rate: 2V/µs; Voltage - Input Offset: 3.5mV; Voltage - Supply, Single/Dual (±): 2.5V ~ 5.5V, ±1.25V ~ 2.75V; Part Number: LMV824MTX/NOPB; ComponentLink1Description: Datasheet; ComponentLink1URL: http://www.ti.com/general/docs/suppproductinfo.tsp?distId=10&gotoUrl=http%3A%2F%2Fwww.ti.com%2Flit%2Fgpn%2Flmv821-n; ComponentLink2Description: DigiKey Link; ComponentLink2URL: http://digikey.com/product-detail/en/texas-instruments/LMV824MTX-NOPB/LMV824MTX-NOPBCT-ND/3440150; Device Package: 14-TSSOP (0.173", 4.40mm Width); LastUpdated: 3/30/2020 3:09:24 PM; Lifecycle Status: Active; Minimum Order: 1; Mounting Type: Surface Mount; Operating Temperature: -40°C ~ 85°C; Package / Case: 14-TSSOP (0.173", 4.40mm Width); Packaging: TapeAndReel; PartId: 20; Part Status: Active; Price: 0.65; Series: -; Supplier 1: DigiKey; Supplier Part Number 1: LMV824MTX/NOPBCT-ND; Supplier Device Package: 14-TSSOP
footprint TI TSSOP-14 PW
part A pins: 1 OUT, 2 INA-, 3 INA+, 4 V+ (power), 11 V- (power)
part B pins: 5 INB+, 6 INB-, 7 OUTB
part C pins: 8 OUTC, 9 INC-, 10 INC+
part D pins: 12 IND+, 13 IND-, 14 OUTD

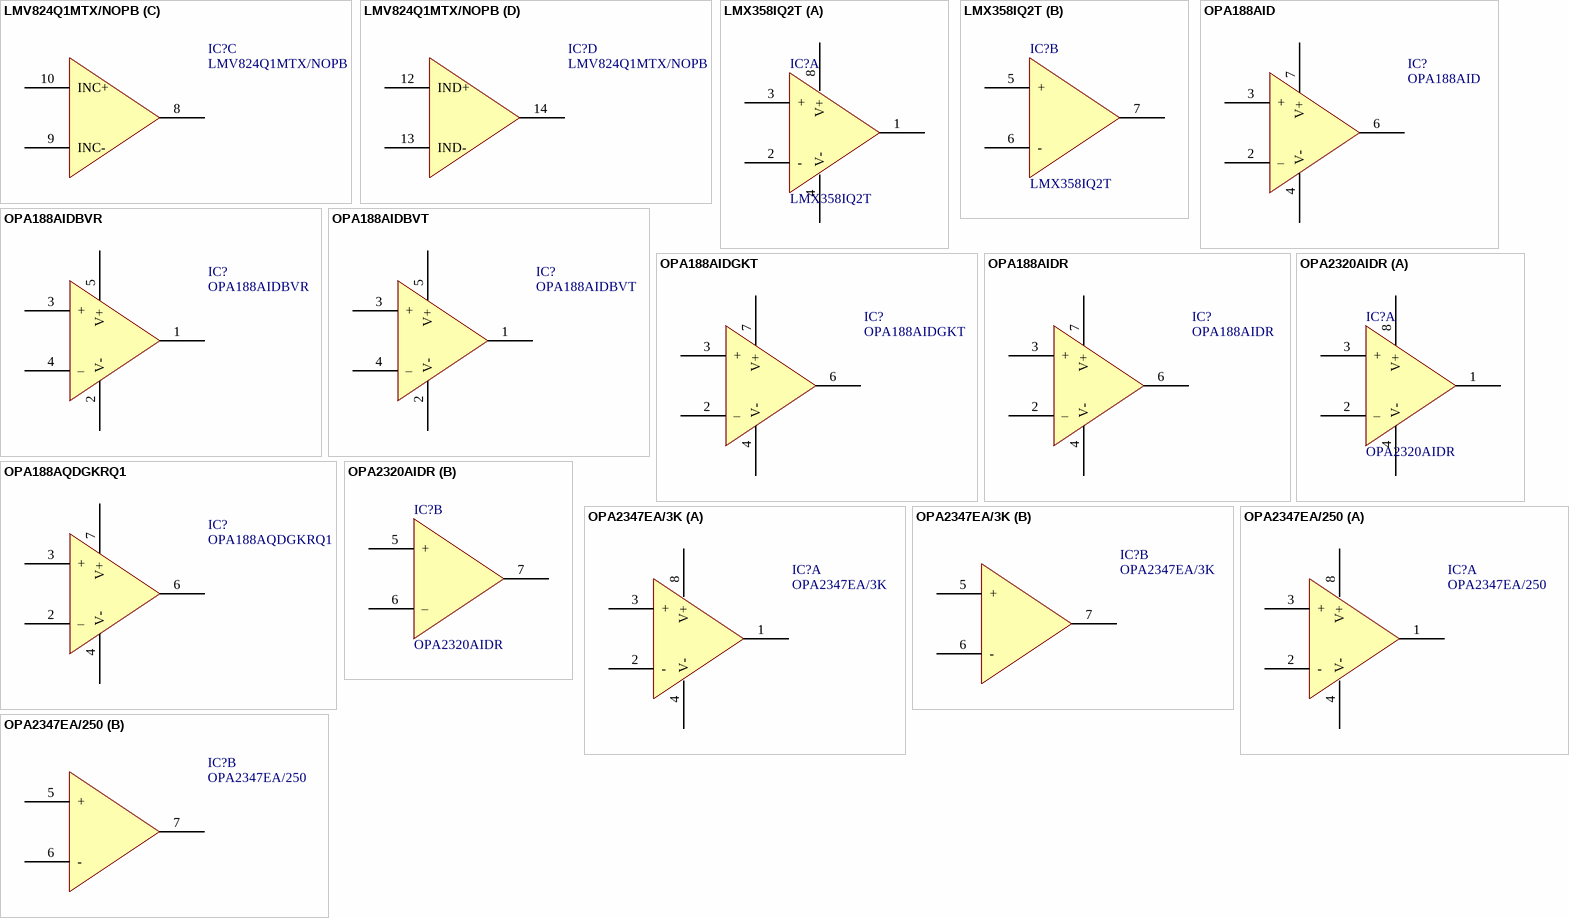
[diagram p2: symbols LMV824Q1MTX/NOPB to OPA2347EA/250]

## LMV824Q1MTX/NOPB
designator IC?
IC OPAMP GP 4 CIRCUIT 14TSSOP; Manufacturer: Texas Instruments; Amplifier Type: General Purpose; Current - Input Bias: 40nA; Current - Supply: 1mA; Gain Bandwidth Product: 5.6MHz; Number of Circuits: 4; Output Type: Rail-to-Rail; Slew Rate: 1.4V/µs; Voltage - Input Offset: 1mV; Voltage - Supply, Single/Dual (±): 2.5V ~ 5.5V, ±1.25V ~ 2.75V; Part Number: LMV824Q1MTX/NOPB; ComponentLink1Description: Datasheet; ComponentLink1URL: http://www.ti.com/general/docs/suppproductinfo.tsp?distId=10&gotoUrl=http%3A%2F%2Fwww.ti.com%2Flit%2Fgpn%2Flmv824-n-q1; ComponentLink2Description: DigiKey Link; ComponentLink2URL: http://digikey.com/product-detail/en/texas-instruments/LMV824Q1MTX-NOPB/296-37313-1-ND/4756196; Device Package: 14-TSSOP (0.173", 4.40mm Width); LastUpdated: 1/9/2020 2:12:57 AM; Lifecycle Status: Active; Minimum Order: 1; Mounting Type: Surface Mount; Operating Temperature: -40°C ~ 125°C; Package / Case: 14-TSSOP (0.173", 4.40mm Width); Packaging: TapeAndReel; PartId: 19; Part Status: Active; Price: 0.77; Series: -; Supplier 1: DigiKey; Supplier Part Number 1: 296-37313-1-ND; Supplier Device Package: 14-TSSOP
footprint TI TSSOP-14 PW
part A pins: 1 OUT, 2 INA-, 3 INA+, 4 V+ (power), 11 V- (power)
part B pins: 5 INB+, 6 INB-, 7 OUTB
part C pins: 8 OUTC, 9 INC-, 10 INC+
part D pins: 12 IND+, 13 IND-, 14 OUTD

## LMX358IQ2T
designator IC?
IC OPAMP GP 2 CIRCUIT 8DFN; Manufacturer: STMicroelectronics; Amplifier Type: General Purpose; Current - Input Bias: 27nA; Current - Output / Channel: 70mA; Current - Supply: 130µA; Gain Bandwidth Product: 1.3MHz; Number of Circuits: 2; Output Type: Rail-to-Rail; Slew Rate: 0.7V/µs; Voltage - Input Offset: 4mV; Voltage - Supply, Single/Dual (±): 2.3V ~ 5.5V; Part Number: LMX358IQ2T; ComponentLink1Description: Datasheet; ComponentLink1URL: http://www.st.com/content/ccc/resource/technical/document/datasheet/f4/aa/37/6e/3b/fe/4f/e1/DM00050849.pdf/files/DM00050849.pdf/jcr:content/translations/en.DM00050849.pdf; ComponentLink2Description: DigiKey Link; ComponentLink2URL: http://digikey.com/product-detail/en/stmicroelectronics/LMX358IQ2T/497-14860-1-ND/4899843; Device Package: 8-UFDFN Exposed Pad; LastUpdated: 4/2/2020 1:31:27 PM; Lifecycle Status: Active; Minimum Order: 1; Mounting Type: Surface Mount; Operating Temperature: -40°C ~ 125°C; Package / Case: 8-UFDFN Exposed Pad; Packaging: TapeAndReel; PartId: 29; Part Status: Active; Price: 0.17; Series: -; Supplier 1: DigiKey; Supplier Part Number 1: 497-14860-1-ND; Supplier Device Package: 8-DFN (2x2)
footprint STM DFN-8 2x2MM
part A pins: 1 OUTA, 2 -, 3 +, 4 V-, 8 V+
part B pins: 5 +, 6 -, 7 OUTB

## OPA188AID
designator IC?
IC OPAMP ZERO-DRIFT 1 CIRC 8SOIC; Manufacturer: Texas Instruments; Current - Input Bias: 160pA; Current - Supply: 450µA; Gain Bandwidth Product: 2MHz; Number of Circuits: 1; Output Type: Rail-to-Rail; Slew Rate: 0.8V/µs; Voltage - Input Offset: 6µV; Voltage - Supply, Single/Dual (±): 4V ~ 36V, ±2V ~ 18V; Part Number: OPA188AID; Amplifier Type: Zero-Drift; ComponentLink1Description: Datasheet; ComponentLink1URL: http://www.ti.com/general/docs/suppproductinfo.tsp?distId=10&gotoUrl=http%3A%2F%2Fwww.ti.com%2Flit%2Fgpn%2Fopa188; ComponentLink2Description: DigiKey Link; ComponentLink2URL: http://digikey.com/product-detail/en/texas-instruments/OPA188AID/296-36185-5-ND/4146941; LastUpdated: 8/29/2020 7:11:34 PM; Lifecycle Status: Active; Minimum Order: 1; Mounting Type: Surface Mount; Operating Temperature: -55°C ~ 150°C; Package / Case: 8-SOIC (0.154", 3.90mm Width); Packaging: Tube; PartId: 32; Part Status: Active; Price: 2.87; Series: -; Supplier 1: DigiKey; Supplier Part Number 1: 296-36185-5-ND; Supplier Device Package: 8-SOIC
footprint TI SOIC-8 D
pins: 2 –, 3 +, 4 V-, 6 OUT, 7 V+

## OPA188AIDBVR
designator IC?
IC OPAMP ZER-DRIFT 1CIRC SOT23-5; Manufacturer: Texas Instruments; Amplifier Type: Zero-Drift; Current - Input Bias: 160pA; Current - Supply: 450µA; Gain Bandwidth Product: 2MHz; Number of Circuits: 1; Output Type: Rail-to-Rail; Slew Rate: 0.8V/µs; Voltage - Input Offset: 6µV; Voltage - Supply, Single/Dual (±): 4V ~ 36V, ±2V ~ 18V; Part Number: OPA188AIDBVR; ComponentLink1Description: Datasheet; ComponentLink1URL: http://www.ti.com/general/docs/suppproductinfo.tsp?distId=10&gotoUrl=http%3A%2F%2Fwww.ti.com%2Flit%2Fgpn%2Fopa188; ComponentLink2Description: DigiKey Link; ComponentLink2URL: http://digikey.com/product-detail/en/texas-instruments/OPA188AIDBVR/296-40438-1-ND/5178315; LastUpdated: 8/29/2020 7:12:33 PM; Lifecycle Status: Active; Minimum Order: 1; Mounting Type: Surface Mount; Operating Temperature: -40°C ~ 125°C; Package / Case: SC-74A, SOT-753; Packaging: TapeAndReel; PartId: 33; Part Status: Active; Price: 1.05; Series: -; Supplier 1: DigiKey; Supplier Part Number 1: 296-40438-1-ND; Supplier Device Package: SOT-23-5
footprint TI SOT-23-5 DBV
pins: 1 OUT, 2 V-, 3 +, 4 –, 5 V+

## OPA188AIDBVT
designator IC?
IC OPAMP ZER-DRIFT 1CIRC SOT23-5; Manufacturer: Texas Instruments; Amplifier Type: Zero-Drift; Current - Input Bias: 160pA; Current - Supply: 450µA; Gain Bandwidth Product: 2MHz; Number of Circuits: 1; Output Type: Rail-to-Rail; Slew Rate: 0.8V/µs; Voltage - Input Offset: 6µV; Voltage - Supply, Single/Dual (±): 4V ~ 36V, ±2V ~ 18V; Part Number: OPA188AIDBVT; ComponentLink1Description: Datasheet; ComponentLink1URL: http://www.ti.com/general/docs/suppproductinfo.tsp?distId=10&gotoUrl=http%3A%2F%2Fwww.ti.com%2Flit%2Fgpn%2Fopa188; ComponentLink2Description: DigiKey Link; ComponentLink2URL: http://digikey.com/product-detail/en/texas-instruments/OPA188AIDBVT/296-36218-1-ND/4212804; LastUpdated: 8/29/2020 7:12:49 PM; Lifecycle Status: Active; Minimum Order: 1; Mounting Type: Surface Mount; Operating Temperature: -40°C ~ 125°C; Package / Case: SC-74A, SOT-753; Packaging: TapeAndReel; PartId: 34; Part Status: Active; Price: 1.63; Series: -; Supplier 1: DigiKey; Supplier Part Number 1: 296-36218-1-ND; Supplier Device Package: SOT-23-5
footprint TI SOT-23-5 DBV
pins: 1 OUT, 2 V-, 3 +, 4 –, 5 V+

## OPA188AIDGKT
designator IC?
IC OPAMP ZERO-DRIFT 1CIRC 8VSSOP; Manufacturer: Texas Instruments; Current - Input Bias: 160pA; Current - Supply: 450µA; Gain Bandwidth Product: 2MHz; Number of Circuits: 1; Output Type: Rail-to-Rail; Slew Rate: 0.8V/µs; Voltage - Input Offset: 6µV; Voltage - Supply, Single/Dual (±): 4V ~ 36V, ±2V ~ 18V; Part Number: OPA188AIDGKT; Amplifier Type: Zero-Drift; ComponentLink1Description: Datasheet; ComponentLink1URL: http://www.ti.com/general/docs/suppproductinfo.tsp?distId=10&gotoUrl=http%3A%2F%2Fwww.ti.com%2Flit%2Fgpn%2Fopa188; ComponentLink2Description: DigiKey Link; ComponentLink2URL: http://digikey.com/product-detail/en/texas-instruments/OPA188AIDGKT/296-35734-1-ND/3987169; LastUpdated: 8/29/2020 7:13:06 PM; Lifecycle Status: Active; Minimum Order: 1; Mounting Type: Surface Mount; Operating Temperature: -55°C ~ 150°C; Package / Case: 8-TSSOP, 8-MSOP (0.118", 3.00mm Width); Packaging: TapeAndReel; PartId: 35; Part Status: Active; Price: 1.63; Series: -; Supplier 1: DigiKey; Supplier Part Number 1: 296-35734-1-ND; Supplier Device Package: 8-VSSOP
footprint TI VSSOP-8 DGK
pins: 2 –, 3 +, 4 V-, 6 OUT, 7 V+

## OPA188AIDR
designator IC?
IC OPAMP ZERO-DRIFT 1 CIRC 8SOIC; Manufacturer: Texas Instruments; Current - Input Bias: 160pA; Current - Supply: 450µA; Gain Bandwidth Product: 2MHz; Number of Circuits: 1; Output Type: Rail-to-Rail; Slew Rate: 0.8V/µs; Voltage - Input Offset: 6µV; Voltage - Supply, Single/Dual (±): 4V ~ 36V, ±2V ~ 18V; Part Number: OPA188AIDR; Amplifier Type: Zero-Drift; ComponentLink1Description: Datasheet; ComponentLink1URL: http://www.ti.com/general/docs/suppproductinfo.tsp?distId=10&gotoUrl=http%3A%2F%2Fwww.ti.com%2Flit%2Fgpn%2Fopa188; ComponentLink2Description: DigiKey Link; ComponentLink2URL: http://digikey.com/product-detail/en/texas-instruments/OPA188AIDR/296-41346-1-ND/5222828; LastUpdated: 8/29/2020 7:13:35 PM; Lifecycle Status: Active; Minimum Order: 1; Mounting Type: Surface Mount; Operating Temperature: -55°C ~ 150°C; Package / Case: 8-SOIC (0.154", 3.90mm Width); Packaging: TapeAndReel; PartId: 36; Part Status: Active; Price: 1.05; Series: -; Supplier 1: DigiKey; Supplier Part Number 1: 296-41346-1-ND; Supplier Device Package: 8-SOIC
footprint TI SOIC-8 D
pins: 2 –, 3 +, 4 V-, 6 OUT, 7 V+

## OPA188AQDGKRQ1
designator IC?
IC OPAMP ZERO-DRIFT 1CIRC 8VSSOP; Manufacturer: Texas Instruments; Current - Input Bias: 160pA; Current - Output / Channel: 18mA; Current - Supply: 450µA; Gain Bandwidth Product: 2MHz; Number of Circuits: 1; Output Type: Rail-to-Rail; Slew Rate: 0.8V/µs; Voltage - Input Offset: 6µV; Voltage - Supply, Single/Dual (±): 4V ~ 36V, ±2V ~ 18V; Part Number: OPA188AQDGKRQ1; Amplifier Type: Zero-Drift; ComponentLink1Description: Datasheet; ComponentLink1URL: http://www.ti.com/general/docs/suppproductinfo.tsp?distId=10&gotoUrl=http%3A%2F%2Fwww.ti.com%2Flit%2Fgpn%2Fopa188-q1; ComponentLink2Description: DigiKey Link; ComponentLink2URL: http://digikey.com/product-detail/en/texas-instruments/OPA188AQDGKRQ1/296-46905-1-ND/7244247; LastUpdated: 8/29/2020 7:13:53 PM; Lifecycle Status: Active; Minimum Order: 1; Mounting Type: Surface Mount; Operating Temperature: -40°C ~ 125°C; Package / Case: 8-TSSOP, 8-MSOP (0.118", 3.00mm Width); Packaging: CutTape; PartId: 37; Part Status: Active; Price: 2.90; Series: Automotive, AEC-Q100; Supplier 1: DigiKey; Supplier Part Number 1: 296-46905-1-ND; Supplier Device Package: 8-VSSOP
footprint TI VSSOP-8 DGK
pins: 2 –, 3 +, 4 V-, 6 OUT, 7 V+

## OPA2320AIDR
designator IC?
IC OPAMP GP 2 CIRCUIT 8SOIC; Manufacturer: Texas Instruments; Amplifier Type: General Purpose; Current - Input Bias: 0.2pA; Current - Output / Channel: 65mA; Current - Supply: 1.45mA; Gain Bandwidth Product: 20MHz; Number of Circuits: 2; Output Type: Rail-to-Rail; Slew Rate: 10V/µs; Voltage - Input Offset: 40µV; Voltage - Supply, Single/Dual (±): 1.8V ~ 5.5V, ±0.9V ~ 2.75V; Part Number: OPA2320AIDR; ComponentLink1Description: Datasheet; ComponentLink1URL: http://www.ti.com/general/docs/suppproductinfo.tsp?distId=10&gotoUrl=http%3A%2F%2Fwww.ti.com%2Flit%2Fgpn%2Fopa2320; ComponentLink2Description: DigiKey Link; ComponentLink2URL: http://digikey.com/product-detail/en/texas-instruments/OPA2320AIDR/296-29885-1-ND/2782287; Device Package: 8-SOIC (0.154", 3.90mm Width); LastUpdated: 5/13/2020 5:15:17 PM; Lifecycle Status: Active; Minimum Order: 1; Mounting Type: Surface Mount; Operating Temperature: -40°C ~ 125°C; Package / Case: 8-SOIC (0.154", 3.90mm Width); Packaging: TapeAndReel; PartId: 30; Part Status: Active; Price: 1.41; Series: -; Supplier 1: DigiKey; Supplier Part Number 1: 296-29885-1-ND; Supplier Device Package: 8-SOIC
footprint TI SOIC-8 D
part A pins: 1 OUT A, 2 –, 3 +, 4 V-, 8 V+
part B pins: 5 +, 6 –, 7 OUT B

## OPA2347EA/3K
designator IC?
IC OPAMP GP 2 CIRCUIT SOT23-8; Manufacturer: Texas Instruments; Amplifier Type: General Purpose; Current - Input Bias: 0.5pA; Current - Supply: 20µA; Gain Bandwidth Product: 350kHz; Number of Circuits: 2; Output Type: Rail-to-Rail; Slew Rate: 0.17V/µs; Voltage - Input Offset: 2mV; Voltage - Supply, Single/Dual (±): 2.3V ~ 5.5V, ±1.15V ~ 2.75V; Part Number: OPA2347EA/3K; ComponentLink1Description: Datasheet; ComponentLink1URL: http://www.ti.com/general/docs/suppproductinfo.tsp?distId=10&gotoUrl=http%3A%2F%2Fwww.ti.com%2Flit%2Fgpn%2Fopa2347; ComponentLink2Description: DigiKey Link; ComponentLink2URL: http://digikey.com/product-detail/en/texas-instruments/OPA2347EA-3K/296-27925-1-ND/2440706; Device Package: SOT-23-8; LastUpdated: 4/2/2020 1:30:36 PM; Lifecycle Status: Active; Minimum Order: 1; Mounting Type: Surface Mount; Operating Temperature: -55°C ~ 125°C; Package / Case: SOT-23-8; Packaging: TapeAndReel; PartId: 28; Part Status: Active; Price: 0.46; Series: -; Supplier 1: DigiKey; Supplier Part Number 1: 296-27925-1-ND; Supplier Device Package: SOT-23-8
footprint TI SOT-23-8 DCN
part A pins: 1 OUTA, 2 -, 3 +, 4 V-, 8 V+
part B pins: 5 +, 6 -, 7 OUTB